# EAGLE library part PINS_7 (library act-global-nolan)
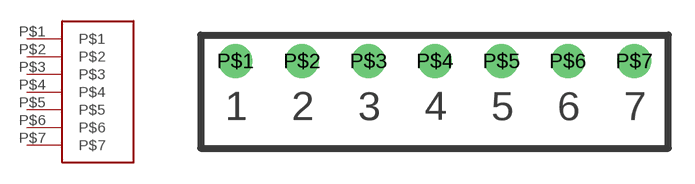
[diagram p9: symbol with the pads of 1X7-3MM81; footprint 1X7-3MM81]

Designator prefix -

## PINS_7  [1X7-3MM81]
P$1  P$1
P$2  P$2
P$3  P$3
P$4  P$4
P$5  P$5
P$6  P$6
P$7  P$7

## Footprint 1X7-3MM81 (pad centres in mm)
drill 1.1 pad 1.93: P$1 0,0; P$2 3.81,0; P$3 7.62,0; P$4 11.43,0; P$5 15.24,0; P$6 19.05,0; P$7 22.86,0